# EAGLE library part POWER_MODUL (library bitrecords)
Footprint für das BitRecords Power Modul
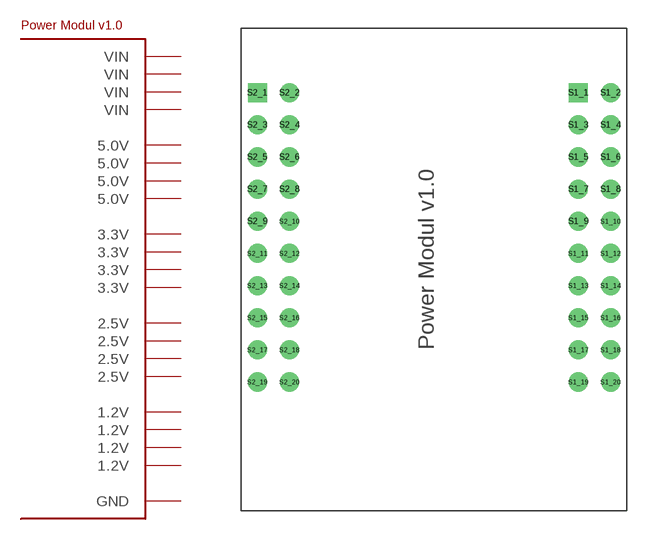
[diagram p0: symbol with the pads of POWER; footprint POWER]

Designator prefix MODUL

## POWER_MODUL  [POWER]
S1_1  VIN  sup
S1_2  VIN  sup
S1_3  GND  pwr
S1_4  GND  pwr
S1_5  5.0V  sup
S1_6  5.0V  sup
S1_7  GND  pwr
S1_8  GND  pwr
S1_9  3.3V  sup
S1_10  3.3V  sup
S1_11  GND  pwr
S1_12  GND  pwr
S1_13  2.5V  sup
S1_14  2.5V  sup
S1_15  GND  pwr
S1_16  GND  pwr
S1_17  1.2V  sup
S1_18  1.2V  sup
S1_19  GND  pwr
S1_20  GND  pwr
S2_1  VIN  sup
S2_2  VIN  sup
S2_3  GND  pwr
S2_4  GND  pwr
S2_5  5.0V  sup
S2_6  5.0V  sup
S2_7  GND  pwr
S2_8  GND  pwr
S2_9  3.3V  sup
S2_10  3.3V  sup
S2_11  GND  pwr
S2_12  GND  pwr
S2_13  2.5V  sup
S2_14  2.5V  sup
S2_15  GND  pwr
S2_16  GND  pwr
S2_17  1.2V  sup
S2_18  1.2V  sup
S2_19  GND  pwr
S2_20  GND  pwr

## Footprint POWER (pad centres in mm)
drill 1 square: S1_1 11.43,11.43; S2_1 -13.97,11.43
drill 1: S1_2 13.97,11.43; S1_3 11.43,8.89; S1_4 13.97,8.89; S1_5 11.43,6.35; S1_6 13.97,6.35; S1_7 11.43,3.81; S1_8 13.97,3.81; S1_9 11.43,1.27; S1_10 13.97,1.27; S1_11 11.43,-1.27; S1_12 13.97,-1.27; S1_13 11.43,-3.81; S1_14 13.97,-3.81; S1_15 11.43,-6.35; S1_16 13.97,-6.35; S1_17 11.43,-8.89; S1_18 13.97,-8.89; S1_19 11.43,-11.43; S1_20 13.97,-11.43; S2_2 -11.43,11.43; S2_3 -13.97,8.89; S2_4 -11.43,8.89; S2_5 -13.97,6.35; S2_6 -11.43,6.35; S2_7 -13.97,3.81; S2_8 -11.43,3.81; S2_9 -13.97,1.27; S2_10 -11.43,1.27; S2_11 -13.97,-1.27; S2_12 -11.43,-1.27; S2_13 -13.97,-3.81; S2_14 -11.43,-3.81; S2_15 -13.97,-6.35; S2_16 -11.43,-6.35; S2_17 -13.97,-8.89; S2_18 -11.43,-8.89; S2_19 -13.97,-11.43; S2_20 -11.43,-11.43